# Altium integrated library B32921C3473K000.IntLib: 1 symbol
Pins are listed as number, name and electrical type; pins without a type are passive.

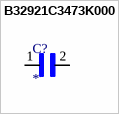
[diagram p0: symbol B32921C3473K000]

## B32921C3473K000
designator C?
MF: TDK; MP: B32921C3473K000; Purchase-URL: https://pricing.snapeda.com/search/part/B32921C3473K000/?ref=eda; Price: None; SnapEDA_Link: https://www.snapeda.com/parts/B32921C3473K000/TDK/view-part/?ref=snap; Check_prices: https://www.snapeda.com/parts/B32921C3473K000/TDK/view-part/?ref=eda; Package: None; Availability: In Stock; Value: *
footprint CAPRR1000W60L1300T500H1100
pins: 1, 2